# EAGLE library part ZXUNO_CONNECTOR (library zxuno)
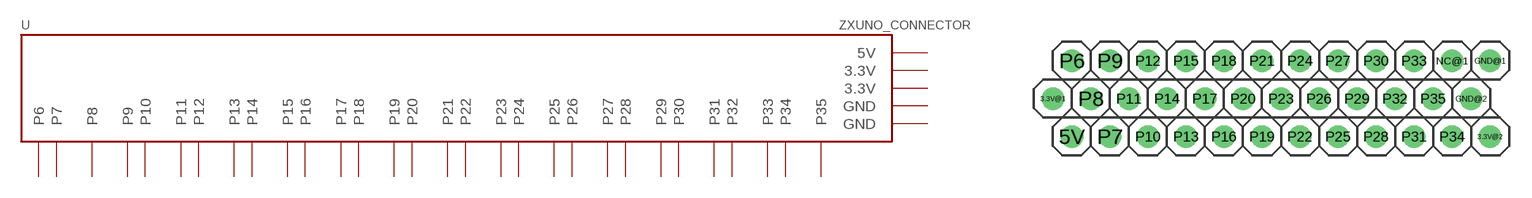
[diagram p0: symbol with the pads of ZXUNO_CONNECTOR; footprint ZXUNO_CONNECTOR]

Designator prefix -

## ZXUNO_CONNECTOR  [ZXUNO_CONNECTOR]
3.3V@1  3.3V  pwr
3.3V@2  3.3V  pwr
5V  5V  pwr
GND@1  GND  pwr
GND@2  GND  pwr
P6  P6
P7  P7
P8  P8
P9  P9
P10  P10
P11  P11
P12  P12
P13  P13
P14  P14
P15  P15
P16  P16
P17  P17
P18  P18
P19  P19
P20  P20
P21  P21
P22  P22
P23  P23
P24  P24
P25  P25
P26  P26
P27  P27
P28  P28
P29  P29
P30  P30
P31  P31
P32  P32
P33  P33
P34  P34
P35  P35

## Footprint ZXUNO_CONNECTOR (pad centres in mm)
drill 1.016: 3.3V@1 -13.97,0; 3.3V@2 15.24,-2.54; 5V -12.7,-2.54; GND@1 15.24,2.54; GND@2 13.97,0; NC@1 12.7,2.54; P6 -12.7,2.54; P7 -10.16,-2.54; P8 -11.43,0; P9 -10.16,2.54; P10 -7.62,-2.54; P11 -8.89,0; P12 -7.62,2.54; P13 -5.08,-2.54; P14 -6.35,0; P15 -5.08,2.54; P16 -2.54,-2.54; P17 -3.81,0; P18 -2.54,2.54; P19 0,-2.54; P20 -1.27,0; P21 0,2.54; P22 2.54,-2.54; P23 1.27,0; P24 2.54,2.54; P25 5.08,-2.54; P26 3.81,0; P27 5.08,2.54; P28 7.62,-2.54; P29 6.35,0; P30 7.62,2.54; P31 10.16,-2.54; P32 8.89,0; P33 10.16,2.54; P34 12.7,-2.54; P35 11.43,0